# Altium schematic symbol library Cole_.SchLib: 330 symbols (part 8 of 10)
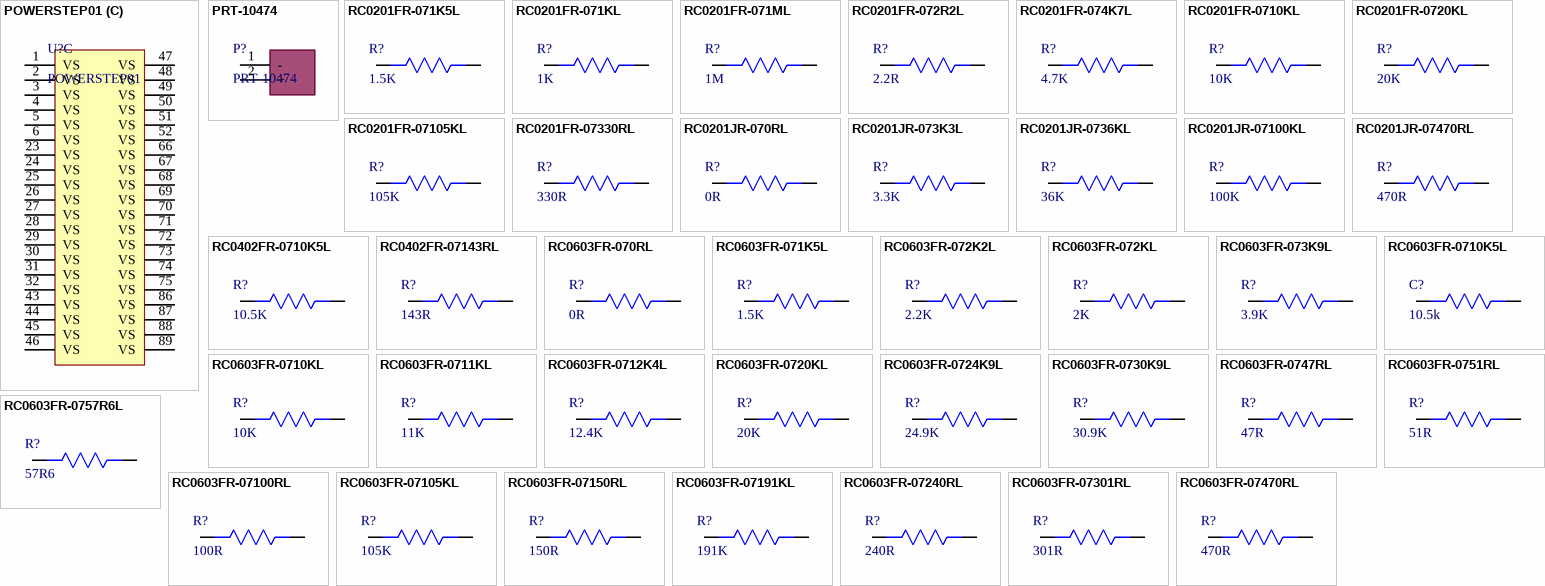
[diagram p15: symbols POWERSTEP01 to RC0603FR-07470RL]

## RC0603FR-07105KL
designator R?, comment 105K
RES SMD 105K OHM 1% 1/10W 0603; Manufacturer: Yageo; Manufacturer Part Number: RC0603FR-07105KL; Resistance: 105kR; Power Rating: 100mW; Voltage Rating: 75V; Temperature Coefficient: 100ppm/°C; Voltage Rating (DC): 50V; Supplier 1: Digi-Key; RoHS: Yes; Category: Chip SMD Resistors; Stock 1: 76313; Pricing 1: 1=0.10000, 10=0.02400, 100=0.00970, 1000=0.00436, 2500=0.00378 (USD); Mount: Surface Mount; Case/Package: 0603; Case Code (Metric): 1608; Case Code (Imperial): 0603; Weight: 7.1E-05oz; Size Code: 0603; Min Operating Temperature: -55°C; Max Operating Temperature: 155°C; Tolerance: 1%; Packaging: Tape and Reel; Package Quantity: 1; Resistor Type: Thick Film; Number of Terminations: 2; Termination: SMD/SMT; Max Power Dissipation: 100mW; Features: Moisture Resistant; Series: RC; Construction: Rectangular; Technology: THICK FILM; Length: 1.6mm; Width: 0.031inch; Height: 0.45mm; Depth: 0.8mm; Military Standard: Not; Lead Free: Lead Free; RoHS Compliant: Yes; ComponentLink1URL: https://datasheet.ciiva.com/11819/0900766b80f96399-11819228.pdf?src-supplier=RSComponents; ComponentLink1Description: https://datasheet.ciiva.com/11819/0900766b80f96399-11819228.pdf?src-supplier=RSComponents; ComponentLink2URL: https://datasheet.ciiva.com/2455/pyu-r-int-thick-7-2455239.pdf?src-supplier=Digi-Key; ComponentLink2Description: https://datasheet.ciiva.com/2455/pyu-r-int-thick-7-2455239.pdf?src-supplier=Digi-Key; ComponentLink3URL: https://datasheet.ciiva.com/2455/pyu-r-int-thick-7-2455240.pdf?src-supplier=Digi-Key; ComponentLink3Description: https://datasheet.ciiva.com/2455/pyu-r-int-thick-7-2455240.pdf?src-supplier=Digi-Key; ComponentLink4URL: https://datasheet.ciiva.com/2455/pyu-r-int-thick-7-2455241.pdf?src-supplier=Digi-Key; ComponentLink4Description: https://datasheet.ciiva.com/2455/pyu-r-int-thick-7-2455241.pdf?src-supplier=Digi-Key; Supplier Part Number 1: 311-105KHRCT-ND
footprint Res0603
pins: 1, 2

## RC0603FR-07150RL
designator R?, comment 150R
RES SMD 150OHM 1/10W 0603; Manufacturer: Yageo; Manufacturer Part Number: RC0603FR-07150RL; Tolerance: 1%; Power Rating: 100mW; Voltage Rating (DC): 50V; Temperature Coefficient: 100ppm/°C; Supplier 1: Digi-Key; RoHS: Yes; Category: Chip SMD Resistors; Stock 1: 263721; Pricing 1: 1=0.10000, 10=0.02400, 100=0.00970, 1000=0.00436, 2500=0.00378 (USD); Case/Package: 0603; Number of Pins: 2; Case Code (Imperial): 0603; Case Code (Metric): 1608; Size Code: 0603; Min Operating Temperature: -55°C; Max Operating Temperature: 155°C; Resistance: 150R; Packaging: Tape and Reel; Voltage Rating: 50V; Package Quantity: 5000; Termination: SMD/SMT; Resistor Type: Thick Film; Features: Moisture Resistant; Series: RC; Max Power Dissipation: 100mW; Number of Terminations: 2; Resistance Tolerance: 1%; Construction: Rectangular; Length: 1.6mm; Width: 0.8mm; Height: 0.45mm; Depth: 0.8mm; REACH SVHC: No SVHC; Lead Free: Lead Free; Military Standard: Not; RoHS Compliant: Yes; ComponentLink1URL: https://datasheet.ciiva.com/46412/443971-46412844.pdf?src-supplier=Element14; ComponentLink1Description: https://datasheet.ciiva.com/46412/443971-46412844.pdf?src-supplier=Element14; ComponentLink2URL: https://datasheet.ciiva.com/46440/1868787-46440893.pdf?src-supplier=Element14; ComponentLink2Description: https://datasheet.ciiva.com/46440/1868787-46440893.pdf?src-supplier=Element14; ComponentLink3URL: https://datasheet.ciiva.com/12555/rc0603-272842-12555301.pdf?src-supplier=Mouser; ComponentLink3Description: https://datasheet.ciiva.com/12555/rc0603-272842-12555301.pdf?src-supplier=Mouser; Supplier Part Number 1: 311-150HRCT-ND
footprint Res0603
pins: 1, 2

## RC0603FR-07191KL
designator R?, comment 191K
RES 191K OHM 1% 1/10W 0603; Manufacturer: Yageo; Manufacturer Part Number: RC0603FR-07191KL; Resistance: 191kR; Temperature Coefficient: 100ppm/°C; Power Rating: 100mW; Voltage Rating: 50V; Supplier 1: Future Electronics; RoHS: Yes; Category: Chip SMD Resistors; Stock 1: 5000; Pricing 1: 5000=0.00140, 25000=0.00120, 125000=0.00110, 250000=0.00110, 750000=0.00110 (USD); Case/Package: 0603; Contact Plating: Tin,Matte; Case Code (Metric): 1608; Case Code (Imperial): 0603; Size Code: 0603; Min Operating Temperature: -55°C; Max Operating Temperature: 155°C; Tolerance: 1%; Resistor Type: Thick Film; Package Quantity: 1; Packaging: Tape and Reel; Number of Terminations: 2; Termination: SMD/SMT; Max Power Dissipation: 100mW; Voltage Rating (DC): 50V; Features: Moisture Resistant; Series: RC; Construction: Rectangular; Length: 0.063inch; Width: 0.031inch; Height: 0.022inch; Depth: 0.8mm; Military Standard: Not; Lead Free: Lead Free; RoHS Compliant: Yes; ComponentLink1URL: https://datasheet.ciiva.com/2454/pyu-r-int-thick-7-2454421.pdf?src-supplier=Digi-Key; ComponentLink1Description: https://datasheet.ciiva.com/2454/pyu-r-int-thick-7-2454421.pdf?src-supplier=Digi-Key; ComponentLink2URL: https://datasheet.ciiva.com/2454/pyu-r-int-thick-7-2454422.pdf?src-supplier=Digi-Key; ComponentLink2Description: https://datasheet.ciiva.com/2454/pyu-r-int-thick-7-2454422.pdf?src-supplier=Digi-Key; ComponentLink3URL: https://datasheet.ciiva.com/2454/pyu-r-int-thick-7-2454420.pdf?src-supplier=Digi-Key; ComponentLink3Description: https://datasheet.ciiva.com/2454/pyu-r-int-thick-7-2454420.pdf?src-supplier=Digi-Key; Supplier Part Number 1: 9179672
footprint Res0603
pins: 1, 2

## RC0603FR-07240RL
designator R?, comment 240R
Res Thick Film 0603 240 Ohm 1% 1/10W +/-100ppm/ßC Molded SMD Paper T/R; Manufacturer: Yageo; Manufacturer Part Number: RC0603FR-07240RL; Temperature Coefficient: 100ppm/°C; Voltage Rating (DC): 50V; Power Rating: 100mW; Working Voltage: 75V; Supplier 1: Digi-Key; RoHS: Yes; Category: Chip SMD Resistors; Stock 1: 1253362; Pricing 1: 1=0.10000, 10=0.02400, 100=0.00970, 1000=0.00436, 2500=0.00378 (USD); Case/Package: 0603; Case Code (Metric): 1608; Case Code (Imperial): 0603; Min Operating Temperature: -55°C; Max Operating Temperature: 155°C; Resistance: 240R; Tolerance: 1%; Resistor Type: Thick Film; Packaging: Tape and Reel; Package Quantity: 1; Voltage Rating: 50V; Number of Terminations: 2; Termination: SMD/SMT; Max Power Dissipation: 100mW; Features: Moisture Resistant; Series: RC; Construction: Rectangular; Length: 1.6mm; Width: 0.031inch; Height: 0.022inch; Depth: 0.8mm; Lead Free: Lead Free; Military Standard: Not; RoHS Compliant: Yes; ComponentLink1URL: https://datasheet.ciiva.com/2508/pyu-r-int-thick-7-2508497.pdf?src-supplier=Digi-Key; ComponentLink1Description: https://datasheet.ciiva.com/2508/pyu-r-int-thick-7-2508497.pdf?src-supplier=Digi-Key; ComponentLink2URL: https://datasheet.ciiva.com/2508/pyu-r-int-thick-7-2508498.pdf?src-supplier=Digi-Key; ComponentLink2Description: https://datasheet.ciiva.com/2508/pyu-r-int-thick-7-2508498.pdf?src-supplier=Digi-Key; ComponentLink3URL: https://datasheet.ciiva.com/2508/pyu-r-int-thick-7-2508499.pdf?src-supplier=Digi-Key; ComponentLink3Description: https://datasheet.ciiva.com/2508/pyu-r-int-thick-7-2508499.pdf?src-supplier=Digi-Key; Supplier Part Number 1: 311-240HRCT-ND
footprint Res0603
pins: 1, 2

## RC0603FR-07301RL
designator R?, comment 301R
RES SMD 301 OHM 1% 1/10W 0603; Manufacturer: Yageo; Manufacturer Part Number: RC0603FR-07301RL; Temperature Coefficient: 100ppm/°C; Voltage Rating (DC): 50V; Power Rating: 100mW; Supplier 1: Digi-Key; Stock 1: 1010008; Pricing 1: 1=0.1, 10=0.024, 100=0.0097, 1000=0.00437, 2500=0.00379 (USD); Case/Package: 0603; Case Code (Metric): 1608; Case Code (Imperial): 0603; Min Operating Temperature: -55°C; Max Operating Temperature: 155°C; Resistance: 301R; Tolerance: 1%; Composition: Thick Film; Packaging: Tape and Reel; Package Quantity: 1; Voltage Rating: 50V; Number of Terminations: 2; Termination: SMD/SMT; Military Standard: Not; Max Power Dissipation: 100mW; Features: Moisture Resistant; Length: 1.6mm; Height: 0.022inch; Width: 0.031inch; Depth: 0.8mm; Lead Free: Lead Free; ComponentLink1URL: http://www.yageo.com/documents/recent/PYu-RC_Group_51_RoHS_L_9.pdf; ComponentLink1Description: http://www.yageo.com/documents/recent/PYu-RC_Group_51_RoHS_L_9.pdf; ComponentLink2URL: http://www.yageo.com/documents/recent/PYu-RC_Group_51_RoHS_L_10.pdf; ComponentLink2Description: http://www.yageo.com/documents/recent/PYu-RC_Group_51_RoHS_L_10.pdf; Supplier Part Number 1: 311-301HRCT-ND
footprint Res0603
pins: 1, 2

## RC0603FR-07470RL
designator R?, comment 470R
RES SMD 470 OHM 50 V, 0603 100 mW,  1%, RC Series; Manufacturer: Yageo; Manufacturer Part Number: RC0603FR-07470RL; Power Rating: 100mW; Voltage Rating: 50V; Temperature Coefficient: 100ppm/°C; Working Voltage: 75V; Supplier 1: Digi-Key; RoHS: Yes; Category: Chip SMD Resistors; Stock 1: 154083; Pricing 1: 1=0.10000, 10=0.02400, 100=0.00970, 1000=0.00436, 2500=0.00378 (USD); Case/Package: 0603; Case Code (Metric): 1608; Case Code (Imperial): 0603; Min Operating Temperature: -55°C; Max Operating Temperature: 155°C; Tolerance: 1%; Resistance: 470R; Packaging: Tape and Reel; Package Quantity: 1; Resistor Type: Thick Film; Number of Terminations: 2; Termination: SMD/SMT; Max Power Dissipation: 100mW; Features: Moisture Resistant; Series: RC; Technology: THICK FILM; Resistance Tolerance: 1%; Construction: Rectangular; Length: 1.6mm; Width: 0.031inch; Height: 0.022inch; Depth: 0.8mm; RoHS Compliant: Yes; REACH SVHC: No SVHC; Military Standard: Not; Lead Free: Lead Free; ComponentLink1URL: https://datasheet.ciiva.com/11808/0900766b80f96399-11808177.pdf?src-supplier=RSComponents; ComponentLink1Description: https://datasheet.ciiva.com/11808/0900766b80f96399-11808177.pdf?src-supplier=RSComponents; ComponentLink2URL: https://datasheet.ciiva.com/7746/1738695-7746359.pdf?src-supplier=Element14; ComponentLink2Description: https://datasheet.ciiva.com/7746/1738695-7746359.pdf?src-supplier=Element14; ComponentLink3URL: https://datasheet.ciiva.com/7746/1738695-7746360.pdf?src-supplier=Element14; ComponentLink3Description: https://datasheet.ciiva.com/7746/1738695-7746360.pdf?src-supplier=Element14; ComponentLink4URL: https://datasheet.ciiva.com/7660/1868787-7660793.pdf?src-supplier=Element14; ComponentLink4Description: https://datasheet.ciiva.com/7660/1868787-7660793.pdf?src-supplier=Element14; ComponentLink5URL: https://datasheet.ciiva.com/46440/1868787-46440907.pdf?src-supplier=Element14; ComponentLink5Description: https://datasheet.ciiva.com/46440/1868787-46440907.pdf?src-supplier=Element14; ComponentLink6URL: https://datasheet.ciiva.com/2454/pyu-r-int-thick-7-2454012.pdf?src-supplier=Digi-Key; ComponentLink6Description: https://datasheet.ciiva.com/2454/pyu-r-int-thick-7-2454012.pdf?src-supplier=Digi-Key; ComponentLink7URL: https://datasheet.ciiva.com/2454/pyu-r-int-thick-7-2454013.pdf?src-supplier=Digi-Key; ComponentLink7Description: https://datasheet.ciiva.com/2454/pyu-r-int-thick-7-2454013.pdf?src-supplier=Digi-Key; ComponentLink8URL: https://datasheet.ciiva.com/2454/pyu-r-int-thick-7-2454014.pdf?src-supplier=Digi-Key; ComponentLink8Description: https://datasheet.ciiva.com/2454/pyu-r-int-thick-7-2454014.pdf?src-supplier=Digi-Key; Supplier Part Number 1: 311-470HRCT-ND
footprint Res0603
pins: 1, 2

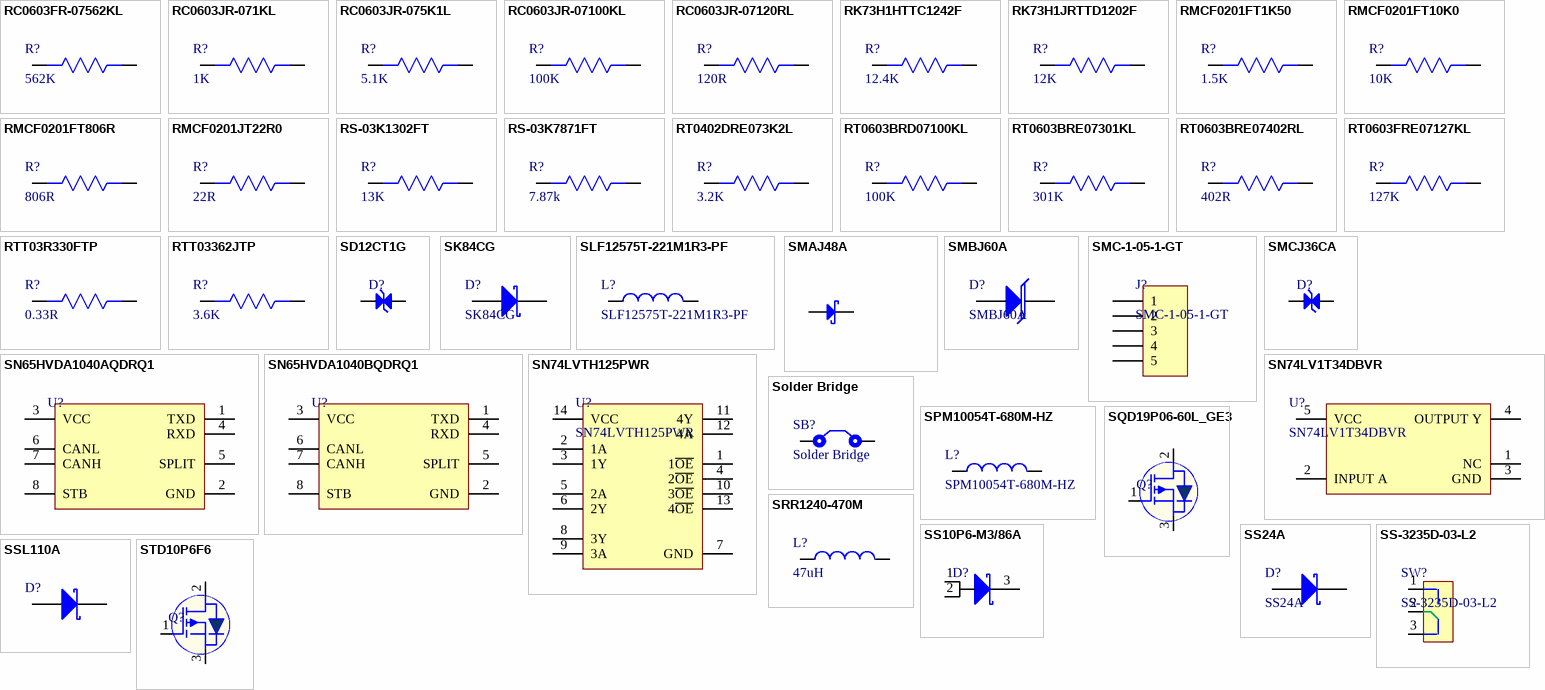
[diagram p6: symbols RC0603FR-07562KL to STD10P6F6]

## RC0603FR-07562KL
designator R?, comment 562K
RES 562K OHM 1% 1/10W 0603; Manufacturer: Yageo; Manufacturer Part Number: RC0603FR-07562KL; Resistance: 562kR; Power Rating: 100mW; Voltage Rating: 75V; Temperature Coefficient: 100ppm/°C; Voltage Rating (DC): 50V; Supplier 1: Digi-Key; RoHS: Yes; Category: Chip SMD Resistors; Stock 1: 39504; Pricing 1: 5000=0.00312 (USD); Mount: Surface Mount; Case/Package: 0603; Case Code (Imperial): 0603; Case Code (Metric): 1608; Weight: 7.1E-05oz; Min Operating Temperature: -55°C; Max Operating Temperature: 155°C; Tolerance: 1%; Packaging: Tape and Reel; Termination: SMD/SMT; Resistor Type: Thick Film; Working Voltage: 75V; Number of Terminations: 2; Features: Moisture Resistant; Series: RC; Max Power Dissipation: 100mW; Construction: Rectangular; Technology: THICK FILM; Length: 1.6mm; Width: 0.8mm; Height: 0.45mm; Depth: 0.8mm; Military Standard: Not; Lead Free: Lead Free; RoHS Compliant: Yes; ComponentLink1URL: https://datasheet.ciiva.com/11809/0900766b80f96399-11809291.pdf?src-supplier=RSComponents; ComponentLink1Description: https://datasheet.ciiva.com/11809/0900766b80f96399-11809291.pdf?src-supplier=RSComponents; Supplier Part Number 1: 311-562KHRTR-ND
footprint Res0603
pins: 1, 2

## RC0603JR-071KL
designator R?, comment 1K
RES SMD 1K 0.1W 0603  75 V, Thick Film; Manufacturer: Yageo; Manufacturer Part Number: RC0603JR-071KL; Resistance: 1kR; Tolerance: 5%; Temperature Coefficient: 100ppm/°C; Voltage Rating (DC): 50V; Power Rating: 100mW; Body Length: 1.6mm; Supplier 1: Digi-Key; RoHS: Yes; Category: Chip SMD Resistors; Stock 1: 1727570; Pricing 1: 1=0.10000, 10=0.02000, 100=0.00800, 1000=0.00360, 2500=0.00312 (USD); Case/Package: 0603; Number of Pins: 2; Contact Plating: Tin,Matte; Case Code (Imperial): 0603; Case Code (Metric): 1608; Size Code: 0603; Min Operating Temperature: -55°C; Max Operating Temperature: 155°C; Resistor Type: Thick Film; Packaging: Tape and Reel; Package Quantity: 5000; Voltage Rating: 50V; Termination: SMD/SMT; Series: RC; Resistance Tolerance: 5%; Construction: Rectangular; Length: 1.6mm; Width: 0.8mm; Height: 0.45mm; Depth: 0.8mm; Radiation Hardening: No; REACH SVHC: Unknown; Lead Free: Lead Free; Military Standard: Not; RoHS Compliant: Yes; Supplier Part Number 1: 311-1.0KGRCT-ND
footprint Res0603
pins: 1, 2

## RC0603JR-075K1L
designator R?, comment 5.1K
RES SMD 5.1K OHM 5% 1/10W 0603; Manufacturer: Yageo; Manufacturer Part Number: RC0603JR-075K1L; Resistance: 5.1kR; Power Rating: 100mW; Voltage Rating: 50V; Temperature Coefficient: 100ppm/°C; Supplier 1: Digi-Key; RoHS: Yes; Category: Chip SMD Resistors; Stock 1: 245818; Pricing 1: 1=0.10000, 10=0.02000, 100=0.00800, 1000=0.00360, 2500=0.00312 (USD); Case/Package: 0603; Number of Pins: 2; Case Code (Imperial): 0603; Case Code (Metric): 1608; Size Code: 0603; Min Operating Temperature: -55°C; Max Operating Temperature: 155°C; Tolerance: 5%; Packaging: Tape and Reel; Termination: SMD/SMT; Resistor Type: Thick Film; Voltage Rating (DC): 50V; Features: Moisture Resistant; Series: RC; Max Power Dissipation: 100mW; Number of Terminations: 2; Resistance Tolerance: 5%; Construction: Rectangular; Length: 1.6mm; Depth: 0.8mm; REACH SVHC: No SVHC; Military Standard: Not; Lead Free: Lead Free; RoHS Compliant: Yes; ComponentLink1URL: http://www.mouser.com/ds/2/447/RC0603-272842.pdf?src-supplier=Mouser; ComponentLink1Description: http://www.mouser.com/ds/2/447/RC0603-272842.pdf?src-supplier=Mouser; ComponentLink2URL: http://components.arrow.com/part/dataview/0323_00047491?src-supplier=Arrow+Europe; ComponentLink2Description: http://components.arrow.com/part/dataview/0323_00047491?src-supplier=Arrow+Europe; ComponentLink3URL: http://www.farnell.com/datasheets/2167052.pdf?src-supplier=Farnell; ComponentLink3Description: http://www.farnell.com/datasheets/2167052.pdf?src-supplier=Farnell; ComponentLink4URL: http://www.farnell.com/datasheets/2167052.pdf?src-supplier=Element14; ComponentLink4Description: http://www.farnell.com/datasheets/2167052.pdf?src-supplier=Element14; ComponentLink5URL: http://www.farnell.com/datasheets/2167052.pdf?src-supplier=Newark; ComponentLink5Description: http://www.farnell.com/datasheets/2167052.pdf?src-supplier=Newark; ComponentLink6URL: http://www.farnell.com/datasheets/1868787.pdf?src-supplier=Newark; ComponentLink6Description: http://www.farnell.com/datasheets/1868787.pdf?src-supplier=Newark; ComponentLink7URL: http://www.yageo.com/documents/recent/PYu-RC_Group_51_RoHS_L_10.pdf?src-supplier=Digi-Key; ComponentLink7Description: http://www.yageo.com/documents/recent/PYu-RC_Group_51_RoHS_L_10.pdf?src-supplier=Digi-Key; ComponentLink8URL: http://www.yageo.com/documents/recent/PYu-RC0603_51_RoHS_L_7.pdf?src-supplier=Future+Electronics; ComponentLink8Description: http://www.yageo.com/documents/recent/PYu-RC0603_51_RoHS_L_7.pdf?src-supplier=Future+Electronics; Supplier Part Number 1: 311-5.1KGRCT-ND
footprint Res0603
pins: 1, 2

## RC0603JR-07100KL
designator R?, comment 100K
Res Thick Film 0603 100K Ohm 5% 1/10W 100ppm/C Molded SMD SMD Paper T/R; Manufacturer: Yageo; Manufacturer Part Number: RC0603JR-07100KL; Resistance: 100kR; Temperature Coefficient: 100ppm/°C; Voltage Rating: 50V; Power Rating: 100mW; Supplier 1: Digi-Key; RoHS: Yes; Category: Chip SMD Resistors; Stock 1: 1210037; Pricing 1: 1=0.10000, 10=0.02000, 100=0.00800, 1000=0.00360, 2500=0.00312 (USD); Case/Package: 0603; Number of Pins: 2; Contact Plating: Tin,Matte; Case Code (Imperial): 0603; Case Code (Metric): 1608; Size Code: 0603; Min Operating Temperature: -55°C; Max Operating Temperature: 155°C; Tolerance: 5%; Resistor Type: Thick Film; Packaging: Tape and Reel; Voltage Rating (DC): 50V; Termination: SMD/SMT; Features: Moisture Resistant; Series: RC; Max Power Dissipation: 100mW; Number of Terminations: 2; Resistance Tolerance: 5%; Width: 0.8mm; Radiation Hardening: No; REACH SVHC: No SVHC; Lead Free: Lead Free; RoHS Compliant: Yes; ComponentLink1URL: https://datasheet.ciiva.com/7746/443971-7746424.pdf?src-supplier=Element14; ComponentLink1Description: https://datasheet.ciiva.com/7746/443971-7746424.pdf?src-supplier=Element14; ComponentLink2URL: https://datasheet.ciiva.com/7983/443971-7983686.pdf?src-supplier=Element14; ComponentLink2Description: https://datasheet.ciiva.com/7983/443971-7983686.pdf?src-supplier=Element14; ComponentLink3URL: https://datasheet.ciiva.com/7746/443971-7746423.pdf?src-supplier=Element14; ComponentLink3Description: https://datasheet.ciiva.com/7746/443971-7746423.pdf?src-supplier=Element14; ComponentLink4URL: https://datasheet.ciiva.com/8887/pyu-rc0603-51-rohs-l-4-8887903.pdf?src-supplier=Avnet; ComponentLink4Description: https://datasheet.ciiva.com/8887/pyu-rc0603-51-rohs-l-4-8887903.pdf?src-supplier=Avnet; Supplier Part Number 1: 311-100KGRCT-ND
footprint Res0603
pins: 1, 2

## RC0603JR-07120RL
designator R?, comment 120R
RES SMD 120OHM  0.1W 0603 5%(; Manufacturer: Yageo; Manufacturer Part Number: RC0603JR-07120RL; Temperature Coefficient: 100ppm/°C; Voltage Rating (DC): 50V; Power Rating: 100mW; Supplier 1: Digi-Key; RoHS: Yes; Category: Chip SMD Resistors; Stock 1: 669476; Pricing 1: 1=0.10000, 10=0.02000, 100=0.00800, 1000=0.00360, 2500=0.00312 (USD); Case/Package: 0603; Number of Pins: 2; Case Code (Metric): 1608; Case Code (Imperial): 0603; Size Code: 0603; Min Operating Temperature: -55°C; Max Operating Temperature: 155°C; Resistor Type: Thick Film; Resistance: 120R; Tolerance: 5%; Packaging: Tape and Reel; Voltage Rating: 50V; Package Quantity: 1; Number of Terminations: 2; Termination: SMD/SMT; Max Power Dissipation: 100mW; Features: Moisture Resistant; Series: RC; Resistance Tolerance: 5%; Construction: Rectangular; Length: 1.6mm; Width: 0.8mm; Height: 0.022inch; Depth: 0.8mm; REACH SVHC: No SVHC; Lead Free: Lead Free; Military Standard: Not; RoHS Compliant: Yes; ComponentLink1URL: https://datasheet.ciiva.com/15189/getdatasheetpartid-326532-15189850.pdf?src-supplier=Verical; ComponentLink1Description: https://datasheet.ciiva.com/15189/getdatasheetpartid-326532-15189850.pdf?src-supplier=Verical; ComponentLink2URL: https://datasheet.ciiva.com/2518/pyu-r-int-thick-7-2518850.pdf?src-supplier=Digi-Key; ComponentLink2Description: https://datasheet.ciiva.com/2518/pyu-r-int-thick-7-2518850.pdf?src-supplier=Digi-Key; ComponentLink3URL: https://datasheet.ciiva.com/2518/pyu-r-int-thick-7-2518851.pdf?src-supplier=Digi-Key; ComponentLink3Description: https://datasheet.ciiva.com/2518/pyu-r-int-thick-7-2518851.pdf?src-supplier=Digi-Key; ComponentLink4URL: https://datasheet.ciiva.com/2518/pyu-r-int-thick-7-2518852.pdf?src-supplier=Digi-Key; ComponentLink4Description: https://datasheet.ciiva.com/2518/pyu-r-int-thick-7-2518852.pdf?src-supplier=Digi-Key; ComponentLink5URL: https://datasheet.ciiva.com/12555/rc0603-272842-12555246.pdf?src-supplier=Mouser; ComponentLink5Description: https://datasheet.ciiva.com/12555/rc0603-272842-12555246.pdf?src-supplier=Mouser; ComponentLink6URL: https://datasheet.ciiva.com/46395/443971-46395070.pdf?src-supplier=Element14; ComponentLink6Description: https://datasheet.ciiva.com/46395/443971-46395070.pdf?src-supplier=Element14; Supplier Part Number 1: 311-120GRCT-ND
footprint Res0603
pins: 1, 2

## RK73H1HTTC1242F
designator R?, comment 12.4K
Thick Film Resistors - SMD 12.4K OHM 1%; Manufacturer: KOA Speer; Manufacturer Part Number: RK73H1HTTC1242F; Resistance: 12.4kR; Power Rating: 50mW; Voltage Rating: 25V; Temperature Coefficient: 200ppm/°C; Supplier 1: Digi-Key; RoHS: Yes; Category: Chip SMD Resistors; Stock 1: 7995; Pricing 1: 1=0.10000, 10=0.07500, 100=0.03050, 1000=0.01370, 2500=0.01189, 5000=0.00982 (USD); Case/Package: 0201; Case Code (Imperial): 0201; Case Code (Metric): 0603; Min Operating Temperature: -55°C; Max Operating Temperature: 125°C; Tolerance: 1%; Packaging: Tape and Reel; Package Quantity: 10000; Resistor Type: Thick Film; Termination: SMD/SMT; Voltage Rating (DC): 25V; Series: RK73H; Construction: Rectangular; Length: 0.6mm; Width: 0.3mm; Height: 0.23mm; Depth: 0.3mm; Military Standard: Not; Lead Free: Lead Free; RoHS Compliant: Yes; ComponentLink1URL: https://datasheet.ciiva.com/5554/rk73h-5715-5554809.pdf?src-supplier=Mouser; ComponentLink1Description: https://datasheet.ciiva.com/5554/rk73h-5715-5554809.pdf?src-supplier=Mouser; Supplier Part Number 1: 2019-RK73H1HTTC1242FCT-ND
footprint Res-0201
pins: 1, 2

## RK73H1JRTTD1202F
designator R?, comment 12K
Res, 12K, 1%, 0.1W, 0603 Rohs; Manufacturer: KOA Speer; Manufacturer Part Number: RK73H1JRTTD1202F; Resistance: 12kR; Power Rating: 100mW; Voltage Rating: 75V; Temperature Coefficient: 100ppm/°C; Voltage Rating (DC): 50V; Supplier 1: Digi-Key; RoHS: Yes; Category: Chip SMD Resistors; Stock 1: 65745; Pricing 1: 1=0.12000, 10=0.10900, 100=0.04200, 1000=0.01847, 2500=0.01595 (USD); Case/Package: 0603; Case Code (Imperial): 0603; Case Code (Metric): 1608; Weight: 7.1E-05oz; Min Operating Temperature: -55°C; Max Operating Temperature: 155°C; Tolerance: 1%; Packaging: Tape and Reel; Package Quantity: 5000; Termination: SMD/SMT; Length: 1.6mm; Width: 0.8mm; Height: 0.45mm; RoHS Compliant: Yes; ComponentLink1URL: http://www.mouser.com/ds/2/219/RK73H-5715.pdf?src-supplier=Mouser; ComponentLink1Description: http://www.mouser.com/ds/2/219/RK73H-5715.pdf?src-supplier=Mouser; Supplier Part Number 1: 2019-RK73H1JRTTD1202FCT-ND
footprint Res0603
pins: 1, 2

## RMCF0201FT1K50
designator R?, comment 1.5K
RES SMD 1.5K OHM 1% 1/20W 0201; Manufacturer: Stackpole Electronics; Manufacturer Part Number: RMCF0201FT1K50; Resistance: 1.5kR; Max Power Dissipation: 50mW; Temperature Coefficient: 200ppm/°C; Supplier 1: Digi-Key; RoHS: Yes; Category: Chip SMD Resistors; Stock 1: 151457; Pricing 1: 1=0.10000, 10=0.02700, 100=0.01090, 1000=0.00488, 2500=0.00423, 5000=0.00350 (USD); Mount: Surface Mount; Case/Package: 0201; Case Code (Metric): 0603; Case Code (Imperial): 0201; Contact Plating: Tin,Matte; Min Operating Temperature: -55°C; Max Operating Temperature: 125°C; Packaging: Tape and Reel; Tolerance: 1%; Resistor Type: Thick Film; Number of Terminations: 2; Series: RMCF; Length: 0.024inch; Width: 0.012inch; Height: 0.009inch; Radiation Hardening: No; RoHS Compliant: Yes; ComponentLink1URL: https://www.seielect.com/Catalog/SEI-RMCF_RMCP.pdf?src-supplier=Digi-Key; ComponentLink1Description: https://www.seielect.com/Catalog/SEI-RMCF_RMCP.pdf?src-supplier=Digi-Key; ComponentLink2URL: https://www.seielect.com/catalog/SEI-Packaging.pdf?src-supplier=Digi-Key; ComponentLink2Description: https://www.seielect.com/catalog/SEI-Packaging.pdf?src-supplier=Digi-Key; ComponentLink3URL: https://www.seielect.com/catalog/SEI-RMCF_RMCP.pdf?src-supplier=Avnet; ComponentLink3Description: https://www.seielect.com/catalog/SEI-RMCF_RMCP.pdf?src-supplier=Avnet; Supplier Part Number 1: RMCF0201FT1K50CT-ND
footprint Res-0201
pins: 1, 2

## RMCF0201FT10K0
designator R?, comment 10K
Res Thin Film 0402 3.2K Ohm 0.5% 1/16W ±50ppm/°C Molded SMD Paper T/R; Manufacturer: SEI; Manufacturer Part Number: RMCF0201FT10K0; Item Type: Resistor; Package: 0201; LCSC Part Number: C2479090; ComponentLink1Description: LCSC; ComponentLink1URL: https://www.lcsc.com/product-detail/Chip-Resistor-Surface-Mount_SEI-Stackpole-Elec-RMCF0201FT10K0_C2479090.html
footprint Res-0201
pins: 1, 2

## RMCF0201FT806R
designator R?, comment 806R
RES 806 OHM 1% 1/20W 0201; Manufacturer: Stackpole Electronics; Manufacturer Part Number: RMCF0201FT806R; Max Power Dissipation: 50mW; Temperature Coefficient: 200ppm/°C; Supplier 1: Digi-Key; RoHS: Yes; Category: Chip SMD Resistors; Stock 1: 9465; Pricing 1: 1=0.10000, 10=0.02700, 100=0.01090, 1000=0.00488, 2500=0.00423, 5000=0.00350 (USD); Mount: Surface Mount; Case/Package: 0201; Case Code (Metric): 0603; Case Code (Imperial): 0201; Contact Plating: Tin,Matte; Min Operating Temperature: -55°C; Max Operating Temperature: 125°C; Packaging: Tape and Reel; Resistance: 806R; Tolerance: 1%; Resistor Type: Thick Film; Number of Terminations: 2; Package Quantity: 10000; Series: RMCF; Length: 0.024inch; Width: 0.012inch; Height: 0.009inch; Radiation Hardening: No; RoHS Compliant: Yes; ComponentLink1URL: https://www.seielect.com/catalog/SEI-RMCF_RMCP.pdf?src-supplier=Avnet; ComponentLink1Description: https://www.seielect.com/catalog/SEI-RMCF_RMCP.pdf?src-supplier=Avnet; ComponentLink2URL: https://www.seielect.com/catalog/SEI-Packaging.pdf?src-supplier=Digi-Key; ComponentLink2Description: https://www.seielect.com/catalog/SEI-Packaging.pdf?src-supplier=Digi-Key; ComponentLink3URL: https://www.seielect.com/Catalog/SEI-RMCF_RMCP.pdf?src-supplier=Digi-Key; ComponentLink3Description: https://www.seielect.com/Catalog/SEI-RMCF_RMCP.pdf?src-supplier=Digi-Key; ComponentLink4URL: http://www.seielect.com/Catalog/SEI-RMCF_RMCP.pdf?src-supplier=Digi-Key; ComponentLink4Description: http://www.seielect.com/Catalog/SEI-RMCF_RMCP.pdf?src-supplier=Digi-Key; Supplier Part Number 1: RMCF0201FT806RCT-ND
footprint Res-0201
pins: 1, 2

## RMCF0201JT22R0
designator R?, comment 22R
RES SMD 22 OHM 5% 1/20W 0201; Manufacturer: Stackpole Electronics; Manufacturer Part Number: RMCF0201JT22R0; Max Power Dissipation: 50mW; Temperature Coefficient: 200ppm/°C; Supplier 1: Digi-Key; RoHS: Yes; Category: Chip SMD Resistors; Stock 1: 61464; Pricing 1: 1=0.10000, 10=0.02000, 100=0.00810, 1000=0.00366, 2500=0.00318, 5000=0.00262 (USD); Mount: Surface Mount; Case/Package: 0201; Case Code (Metric): 0603; Case Code (Imperial): 0201; Contact Plating: Tin,Matte; Min Operating Temperature: -55°C; Max Operating Temperature: 125°C; Packaging: Tape and Reel; Resistance: 22R; Tolerance: 5%; Package Quantity: 1; Resistor Type: Thick Film; Number of Terminations: 2; Series: RMCF; Length: 0.024inch; Width: 0.012inch; Height: 0.009inch; Radiation Hardening: No; RoHS Compliant: Yes; ComponentLink1URL: https://www.seielect.com/Catalog/SEI-RMCF_RMCP.pdf?src-supplier=Digi-Key; ComponentLink1Description: https://www.seielect.com/Catalog/SEI-RMCF_RMCP.pdf?src-supplier=Digi-Key; ComponentLink2URL: https://www.seielect.com/catalog/SEI-Packaging.pdf?src-supplier=Digi-Key; ComponentLink2Description: https://www.seielect.com/catalog/SEI-Packaging.pdf?src-supplier=Digi-Key; Supplier Part Number 1: RMCF0201JT22R0CT-ND
footprint Res-0201
pins: 1, 2

## RS-03K1302FT
designator R?, comment 13K
±1% 100mW 50V ±100ppm/℃ -55℃~+155℃ 13kΩ 0603 Chip Resistor - Surface Mount ROHS; Manufacturer: FH; Manufacturer Part No: RS-03K1302FT; Package: 0603; Value: 13K; ComponentLink1Description: LCSC; ComponentLink1URL: https://lcsc.com/product-detail/Chip-Resistor-Surface-Mount_FH-Guangdong-Fenghua-Advanced-Tech-RS-03K1302FT_C286570.html
footprint Res0603
pins: 1, 2

## RS-03K7871FT
designator R?, comment 7.87k
100mW 50V ±1% ±100ppm/℃ -55℃~+155℃ 7.87kΩ 0603 Chip Resistor - Surface Mount ROHS; Manufacturer: FH; Manufacturer Part Number: RS-03K7871FT; Footprint: 0603; ComponentLink1Description: LCSC; ComponentLink1URL: https://lcsc.com/product-detail/Chip-span-style-background-color-ff0-Resistor-span-Surface-Mount_FH-Guangdong-Fenghua-Advanced-Tech-RS-03K7871FT_C322001.html
footprint Res0603
pins: 1, 2

## RT0402DRE073K2L
designator R?, comment 3.2K
RES SMD 3.2K OHM 0.5% 1/16W 0402; Manufacturer: Yageo; Manufacturer Part Number: RT0402DRE073K2L; Value: 3.2kR; Max Power Dissipation: 63mW; Temperature Coefficient: 50ppm/°C; Item Type: Resistor; Supplier: Digi-Key; Supplier Part Number: 311-2283-1-ND; RoHS: Yes; Category: Chip SMD Resistors; Stock: 32960; Pricing: 1=0.17, 10=0.138, 50=0.0768, 100=0.054, 500=0.03442, 1000=0.02383, 5000=0.01986 (USD); Case/Package: 0402; Case Code (Metric): 1005; Case Code (Imperial): 0402; Min Operating Temperature: -55°C; Max Operating Temperature: 155°C; Packaging: Cut Tape; Number of Terminations: 2; Tolerance: 0.5%; Series: RT; RoHS Compliant: Yes; ComponentLink1URL: http://www.yageo.com/documents/recent/PYu-RT_1-to-0.01_RoHS_L_9.pdf?src-supplier=Digi-Key; ComponentLink1Description: http://www.yageo.com/documents/recent/PYu-RT_1-to-0.01_RoHS_L_9.pdf?src-supplier=Digi-Key; LCSC Part Number: C853935
footprint Res0402
pins: 1, 2

## RT0603BRD07100KL
designator R?, comment 100K
RES SMD 100K OHM 0.1% 1/10W 0603; Manufacturer: Yageo; Manufacturer Part Number: RT0603BRD07100KL; Resistance: 100kR; Temperature Coefficient: 25ppm/°C; Voltage Rating (DC): 75V; Power Rating: 100mW; Supplier 1: Digi-Key; Stock 1: 53395; Pricing 1: 1=0.39, 10=0.332, 100=0.1298, 1000=0.05435, 2500=0.04982 (USD); Mount: Surface Mount; Case/Package: 0603; Case Code (Imperial): 0603; Case Code (Metric): 1608; Min Operating Temperature: -55°C; Max Operating Temperature: 125°C; Tolerance: 0.1%; Composition: Thin Film; Packaging: Tape and Reel; Voltage Rating: 75V; Package Quantity: 5000; Termination: SMD/SMT; Number of Terminations: 2; Military Standard: Not; Max Power Dissipation: 100mW; Working Voltage: 75V; Features: Moisture Resistant; Length: 1.6mm; Height: 0.022inch; Width: 0.031inch; Depth: 0.8mm; Lead Free: Lead Free; ComponentLink1URL: http://documents.rs-components.com/techlib://itc_doclist_GB.htm?stockno=6174810&src-supplier=RSComponents; ComponentLink1Description: http://documents.rs-components.com/techlib://itc_doclist_GB.htm?stockno=6174810&src-supplier=RSComponents; Supplier Part Number 1: YAG1235CT-ND
footprint Res0603
pins: 1, 2

## RT0603BRE07301KL
designator R?, comment 301K
RES SMD 301K OHM 0.1% 1/10W 0603; Manufacturer: Yageo; Manufacturer Part Number: RT0603BRE07301KL; Resistance: 301kR; Max Power Dissipation: 100mW; Temperature Coefficient: 50ppm/°C; Voltage Rating (DC): 50V; Supplier 1: Digi-Key; RoHS: Yes; Category: Chip SMD Resistors; Stock 1: 95; Pricing 1: 1=0.40000, 10=0.28900, 100=0.11550, 1000=0.05691, 2500=0.05272 (USD); Case/Package: 0603; Min Operating Temperature: -55°C; Max Operating Temperature: 125°C; Package Quantity: 5000; Packaging: Tape and Reel; Tolerance: 0.1%; Resistor Type: Thin Film; Number of Terminations: 2; Series: RT; Length: 0.063inch; Width: 0.031inch; Height: 0.022inch; Lead Free: Lead Free; RoHS Compliant: Yes; ComponentLink1URL: https://datasheet.ciiva.com/2584/pyu-rt-1-to-0-05-rohs-l-5-2584420.pdf?src-supplier=Digi-Key; ComponentLink1Description: https://datasheet.ciiva.com/2584/pyu-rt-1-to-0-05-rohs-l-5-2584420.pdf?src-supplier=Digi-Key; Supplier Part Number 1: YAG4695CT-ND
footprint Res0603
pins: 1, 2

## RT0603BRE07402RL
designator R?, comment 402R
RES SMD 402 OHM 0.1% 1/10W 0603; Manufacturer: Yageo; Manufacturer Part Number: RT0603BRE07402RL; Power Rating: 100mW; Voltage Rating (DC): 50V; Temperature Coefficient: 50ppm/°C; Item Type: Resistor; Supplier: Digi-Key; Supplier Part Number: RT0603BRE07402RL-ND; RoHS: Yes; Category: Chip SMD Resistors; Pricing: 5000=0.04588 (USD); Case/Package: 0603; Min Operating Temperature: -55°C; Max Operating Temperature: 155°C; Value: 402R; Packaging: Tape and Reel; Tolerance: 0.1%; Series: RT; Max Power Dissipation: 100mW; Number of Terminations: 2; Length: 1.6mm; Width: 800um; Height: 450um; Lead Free: Lead Free; RoHS Compliant: Yes; ComponentLink1URL: http://www.yageo.com/documents/recent/PYu-RT_1-to-0.01_RoHS_L_9.pdf?src-supplier=Digi-Key; ComponentLink1Description: http://www.yageo.com/documents/recent/PYu-RT_1-to-0.01_RoHS_L_9.pdf?src-supplier=Digi-Key; LCSC Part Number: C849745
footprint Res0603
pins: 1, 2

## RT0603FRE07127KL
designator R?, comment 127K
RES SMD 127K OHM 1% 1/10W 0603; Manufacturer: Yageo; Manufacturer Part Number: RT0603FRE07127KL; Power Rating: 100mW; Resistance: 127kR; Voltage Rating: 75V; Temperature Coefficient: 50ppm/°C; Voltage Rating (DC): 50V; Supplier 1: Mouser; RoHS: Yes; Category: Chip SMD Resistors; Stock 1: 7346; Pricing 1: 1=0.19000, 10=0.05700, 50=0.05700, 100=0.02300, 1000=0.01100, 10000=0.00700 (USD); Case/Package: 0603; Case Code (Metric): 1608; Case Code (Imperial): 0603; Min Operating Temperature: -55°C; Max Operating Temperature: 125°C; Packaging: Tape and Reel; Tolerance: 1%; Package Quantity: 5000; Resistor Type: Thin Film; Termination: SMD/SMT; Number of Terminations: 2; Max Power Dissipation: 100mW; Series: RT; Length: 0.063inch; Width: 0.031inch; Height: 0.022inch; Lead Free: Lead Free; RoHS Compliant: Yes; ComponentLink1URL: https://datasheet.ciiva.com/2559/pyu-rt-1-to-0-05-rohs-l-5-2559509.pdf?src-supplier=Digi-Key; ComponentLink1Description: https://datasheet.ciiva.com/2559/pyu-rt-1-to-0-05-rohs-l-5-2559509.pdf?src-supplier=Digi-Key; Supplier Part Number 1: 603-RT0603FRE07127KL
footprint Res0603
pins: 1, 2

## RTT03R330FTP
designator R?, comment 0.33R
±1% 1/10W Thick Film Resistors 75V ±600ppm/℃ -55℃~+155℃ 0.33Ω 0603 Chip Resistor - Surface Mount ROHS; Manufacturer: RALEC; Manufacturer Part No: RTT03R330FTP; Value: 0.33Ω; Package: 0603
footprint Res0603
pins: 1, 2

## RTT03362JTP
designator R?, comment 3.6K
±5% 1/10W Thick Film Resistors 75V ±100ppm/℃ -55℃~+155℃ 3.6kΩ 0603 Chip Resistor - Surface Mount ROHS; Manufacturer: RALEC; Manufacturer Part No: RTT03362JTP; Value: 3.6kΩ; Package: 0603
footprint Res0603
pins: 1, 2

## SD12CT1G
designator D?
TVS DIODE 12VWM 19VC SOD323; Manufacturer: ON Semiconductor; Manufacturer Part Number: SD12CT1G; Voltage Rating (DC): 12V; Supplier: Digikey; Supplier Part Number: SD12CT1GOSCT-ND; RoHS: Yes; Item Type: Tvs Diode; Stock: 264306; Pricing: 1=0.4, 10=0.314, 100=0.1882, 500=0.17422, 1000=0.11847 (USD); Width: 1.25mm; Lead Free: 5697LeadFree; ComponentLink1URL: https://datasheet.ciiva.com/11193/sd12ct1-d-11193237.pdf?src-supplier=Avnet; ComponentLink1Description: https://datasheet.ciiva.com/11193/sd12ct1-d-11193237.pdf?src-supplier=Avnet; ComponentLink2URL: https://datasheet.ciiva.com/4508/sd12ct1-d-4508170.pdf?src-supplier=Mouser; ComponentLink2Description: https://datasheet.ciiva.com/4508/sd12ct1-d-4508170.pdf?src-supplier=Mouser; ComponentLink3URL: https://datasheet.ciiva.com/339/sd12ct1-d-339841.pdf?src-supplier=Digikey; ComponentLink3Description: https://datasheet.ciiva.com/339/sd12ct1-d-339841.pdf?src-supplier=Digikey; ComponentLink4URL: https://datasheet.ciiva.com/339/sd12ct1-d-339842.pdf?src-supplier=Digikey; ComponentLink4Description: https://datasheet.ciiva.com/339/sd12ct1-d-339842.pdf?src-supplier=Digikey; ComponentLink5URL: https://datasheet.ciiva.com/339/sd12ct1-d-339843.pdf?src-supplier=Digikey; ComponentLink5Description: https://datasheet.ciiva.com/339/sd12ct1-d-339843.pdf?src-supplier=Digikey; ComponentLink6URL: https://datasheet.ciiva.com/7973/sd12ct1-d-7973942.pdf?src-supplier=Element14; ComponentLink6Description: https://datasheet.ciiva.com/7973/sd12ct1-d-7973942.pdf?src-supplier=Element14; LCSC Part Number: C328100
footprint SOD-323 (Bi-directional)
pins: 1 A, 2 A

## SK84CG
designator D?
40V 550mV@8A 8A SMC Schottky Barrier Diodes (SBD) ROHS; Manufacturer: Shikues; Manufacturer Part No: SK84CG; Package: SMC; ComponentLink1Description: LCSC; ComponentLink1URL: https://lcsc.com/product-detail/Schottky-Barrier-Diodes-SBD_Shikues-SK84CG_C475724.html
footprint SMC
pins: 1 K, 2 A

## SLF12575T-221M1R3-PF
designator L?
Inductor Power Shielded Wirewound 220uH 20% 1KHz Ferrite 1.3A 310mOhm DCR Blister T/R; Manufacturer: TDK; DC Resistance (DCR): 310mR; Supplier 1: Digi-Key; Manufacturer Part Number: SLF12575T-221M1R3-PF; RoHS: Yes; Category: Fixed Inductors; Stock 1: 1079; Pricing 1: 1=1.97000, 10=1.81500, 25=1.66360, 50=1.42180, 100=1.27050, 250=1.08900 (USD); Mount: Surface Mount; Case/Package: Nonstandard; Core Material: Ferrite; Min Operating Temperature: -20°C; Max Operating Temperature: 105°C; Package Quantity: 500; Packaging: Tape and Reel; Tolerance: 20%; Shielding: Shielded; Inductance: 220uH; Current Rating: 1.3A; Saturation Current: 1.3A; Max DC Current: 1.3A; Termination: SMD/SMT; Resistor Type: Wirewound; Test Frequency: 1kHz; DC Current: 1.3A; Series: SLF; Length: 12.5mm; Width: 12.5mm; Height: 0.295inch; Height - Seated (Max): 0.309inch; Depth: 12.8mm; Military Standard: Not; Lead Free: Lead Free; RoHS Compliant: Yes; ComponentLink1URL: https://datasheet.ciiva.com/11802/0900766b812b7d4f-11802208.pdf?src-supplier=RSComponents; ComponentLink1Description: https://datasheet.ciiva.com/11802/0900766b812b7d4f-11802208.pdf?src-supplier=RSComponents; Supplier Part Number 1: 445-174412-1-ND
footprint SLF12575T-221M1R3-PF
pins: 1, 2

## SMAJ48A
designator D?
TVS DIODE 48VWM 77.4VC DO214AC; Manufacturer: Littelfuse; Manufacturer Part Number: SMAJ48A; Polarity: Unidirectional; Breakdown Voltage: 53.3V; Peak Pulse Power: 400W; Reverse Standoff Voltage: 48V; Peak Pulse Current: 5.2A; Clamping Voltage: 77.4V; Number of Unidirectional Channels: 1; Power Line Protection: No; Test Current: 1mA; Diode Type: ZENER; Max Power Dissipation: 3.3W; Leakage Current: 1uA; Max Breakdown Voltage: 58.9V; Package: SMA(DO-214AC); LCSC Part Number: C223991; Item Type: TVS  Diode; ComponentLink1Description: LCSC; Supplier: Rs; Supplier Part Number: 1719659; RoHS: Yes; Category: TVS Diodes; Stock: 2975; Pricing: 25=0.231, 100=0.214, 500=0.209, 1000=0.204 (GBP); Mounting Technology: Surface Mount; Case/Package: DO-214AC; Pins: 2; Min Operating Temperature: -65°C; Max Operating Temperature: 150°C; Min Breakdown Voltage: 53.3V; Packaging: Tape and Reel; Package Quantity: 5000; Max Surge Current: 5.2A; Series: SMAJ; Operating Supply Voltage: 48V; Direction: Unidirectional; Termination: SMD/SMT; Number of Channels: 1; Reverse Breakdown Voltage: 53.3V; Number of Elements: 1; Voltage Rating (DC): 48V; Power Dissipation: 400W; Clamping Voltage-Max: 77.4V; Length: 5.28mm; Width: 2.79mm; Height: 2.29mm; RoHS Compliant: Yes; Reach SVHC Compliant: No; Lead Free: Lead Free; ComponentLink2URL: https://datasheet.ciiva.com/28649/607617-28649159.pdf?src-supplier=Element14; ComponentLink2Description: https://datasheet.ciiva.com/28649/607617-28649159.pdf?src-supplier=Element14; ComponentLink3URL: https://datasheet.ciiva.com/16391/littelfuse-tvs-diode-smaj-16391798.pdf?src-supplier=Future+Electronics; ComponentLink3Description: https://datasheet.ciiva.com/16391/littelfuse-tvs-diode-smaj-16391798.pdf?src-supplier=Future+Electronics; ComponentLink4URL: https://datasheet.ciiva.com/330/littelfuse-tvs-diode-smaj-datasheet-pdf-330802.pdf?src-supplier=Digi-Key; ComponentLink4Description: https://datasheet.ciiva.com/330/littelfuse-tvs-diode-smaj-datasheet-pdf-330802.pdf?src-supplier=Digi-Key; ComponentLink5URL: https://datasheet.ciiva.com/330/littelfuse-tvs-diode-smaj-datasheet-pdf-330803.pdf?src-supplier=Digi-Key; ComponentLink5Description: https://datasheet.ciiva.com/330/littelfuse-tvs-diode-smaj-datasheet-pdf-330803.pdf?src-supplier=Digi-Key; ComponentLink6URL: https://datasheet.ciiva.com/330/littelfuse-tvs-diode-smaj-datasheet-pdf-330804.pdf?src-supplier=Digi-Key; ComponentLink6Description: https://datasheet.ciiva.com/330/littelfuse-tvs-diode-smaj-datasheet-pdf-330804.pdf?src-supplier=Digi-Key
footprint SMA
pins: 1 K, 2 A

## SMBJ60A
designator D?
TVS DIODE 60V 96.8V DO214AA; Manufacturer: Littelfuse; Manufacturer Part Number: SMBJ6.0A; Peak Pulse Power: 600W; Polarity: Unidirectional; Peak Pulse Current: 6.2A; Test Current: 10mA; Breakdown Voltage: 66.7V; Number of Elements: 1; Leakage Current: 1uA; Min Breakdown Voltage: 6.67V; Max Reverse Leakage Current: 800uA; Element Configuration: Single; Max Breakdown Voltage: 7.37V; Power Line Protection: No; Voltage Rating (DC): 6V; Diode Type: ZENER; Clamping Voltage-Max: 10.3V; Supplier 1: Digi-Key; RoHS: Yes; Category: TVS Diodes; Stock 1: 1394; Pricing 1: 1=0.47000, 10=0.35300, 100=0.21960, 500=0.15028, 1000=0.11560 (USD); Mount: Surface Mount; Case/Package: DO-214AA; Number of Pins: 2; Min Operating Temperature: -65°C; Max Operating Temperature: 150°C; Clamping Voltage: 96.8V; Reverse Standoff Voltage: 60V; Packaging: Tape and Reel; Max Surge Current: 6.2A; Package Quantity: 3000; Reverse Breakdown Voltage: 66.7V; Operating Supply Voltage: 60V; Number of Channels: 1; Direction: Unidirectional; Termination: SMD/SMT; Max Power Dissipation: 600W; Power Dissipation: 600W; Number of Unidirectional Channels: 1; Resistor Type: Zener; Series: SMBJ; Length: 4.57mm; Width: 3.94mm; Height: 2.237mm; Radiation Hardening: No; RoHS Compliant: Yes; Lead Free: Lead Free; REACH SVHC: No SVHC; ComponentLink1URL: https://datasheet.ciiva.com/5771/littelfuse-tvs-diode-smbj-5771072.pdf?src-supplier=Farnell; ComponentLink1Description: https://datasheet.ciiva.com/5771/littelfuse-tvs-diode-smbj-5771072.pdf?src-supplier=Farnell; ComponentLink2URL: https://datasheet.ciiva.com/25624/0900766b810f4eeb-25624708.pdf?src-supplier=RSComponents; ComponentLink2Description: https://datasheet.ciiva.com/25624/0900766b810f4eeb-25624708.pdf?src-supplier=RSComponents; ComponentLink3URL: https://datasheet.ciiva.com/15143/getdatasheetpartid-121100-15143582.pdf?src-supplier=Verical; ComponentLink3Description: https://datasheet.ciiva.com/15143/getdatasheetpartid-121100-15143582.pdf?src-supplier=Verical; ComponentLink4URL: https://datasheet.ciiva.com/331/littelfuse-tvs-diode-smbj-datasheet-pdf-331140.pdf?src-supplier=Digi-Key; ComponentLink4Description: https://datasheet.ciiva.com/331/littelfuse-tvs-diode-smbj-datasheet-pdf-331140.pdf?src-supplier=Digi-Key; ComponentLink5URL: https://datasheet.ciiva.com/331/littelfuse-tvs-diode-smbj-datasheet-pdf-331142.pdf?src-supplier=Digi-Key; ComponentLink5Description: https://datasheet.ciiva.com/331/littelfuse-tvs-diode-smbj-datasheet-pdf-331142.pdf?src-supplier=Digi-Key; ComponentLink6URL: https://datasheet.ciiva.com/331/littelfuse-tvs-diode-smbj-datasheet-pdf-331302.pdf?src-supplier=Digi-Key; ComponentLink6Description: https://datasheet.ciiva.com/331/littelfuse-tvs-diode-smbj-datasheet-pdf-331302.pdf?src-supplier=Digi-Key; ComponentLink7URL: https://datasheet.ciiva.com/331/littelfuse-tvs-diode-smbj-datasheet-pdf-331303.pdf?src-supplier=Digi-Key; ComponentLink7Description: https://datasheet.ciiva.com/331/littelfuse-tvs-diode-smbj-datasheet-pdf-331303.pdf?src-supplier=Digi-Key; ComponentLink8URL: https://datasheet.ciiva.com/8062/13057-8062551.pdf?src-supplier=Element14; ComponentLink8Description: https://datasheet.ciiva.com/8062/13057-8062551.pdf?src-supplier=Element14; ComponentLink9URL: https://datasheet.ciiva.com/16389/littelfuse-tvs-diode-smbj-16389079.pdf?src-supplier=Future+Electronics; ComponentLink9Description: https://datasheet.ciiva.com/16389/littelfuse-tvs-diode-smbj-16389079.pdf?src-supplier=Future+Electronics; ComponentLink10URL: https://datasheet.ciiva.com/331/littelfuse-tvs-diode-smbj-datasheet-pdf-331304.pdf?src-supplier=Digi-Key; ComponentLink10Description: https://datasheet.ciiva.com/331/littelfuse-tvs-diode-smbj-datasheet-pdf-331304.pdf?src-supplier=Digi-Key; ComponentLink11URL: https://datasheet.ciiva.com/16395/littelfuse-tvs-diode-smbj-16395752.pdf?src-supplier=Future+Electronics; ComponentLink11Description: https://datasheet.ciiva.com/16395/littelfuse-tvs-diode-smbj-16395752.pdf?src-supplier=Future+Electronics; ComponentLink12URL: https://datasheet.ciiva.com/8062/littelfuse-tvs-diode-smbj-8062345.pdf?src-supplier=Element14; ComponentLink12Description: https://datasheet.ciiva.com/8062/littelfuse-tvs-diode-smbj-8062345.pdf?src-supplier=Element14; ComponentLink13URL: https://datasheet.ciiva.com/4508/littelfuse-tvs-diode-smbj-48653-4508090.pdf?src-supplier=Mouser; ComponentLink13Description: https://datasheet.ciiva.com/4508/littelfuse-tvs-diode-smbj-48653-4508090.pdf?src-supplier=Mouser; ComponentLink14URL: https://datasheet.ciiva.com/4510/littelfuse-tvs-diode-smbj-48653-4510171.pdf?src-supplier=Mouser; ComponentLink14Description: https://datasheet.ciiva.com/4510/littelfuse-tvs-diode-smbj-48653-4510171.pdf?src-supplier=Mouser; ComponentLink15URL: https://datasheet.ciiva.com/14162/smbj-eng-ds-14162044.pdf?src-supplier=Distrelec; ComponentLink15Description: https://datasheet.ciiva.com/14162/smbj-eng-ds-14162044.pdf?src-supplier=Distrelec; ComponentLink16URL: https://datasheet.ciiva.com/8062/littelfuse-tvs-diode-smbj-8062349.pdf?src-supplier=Element14; ComponentLink16Description: https://datasheet.ciiva.com/8062/littelfuse-tvs-diode-smbj-8062349.pdf?src-supplier=Element14; Supplier Part Number 1: SMBJ6.0ALFCT-ND
footprint SMBJ60A (TVS DIODE 60V 96.8V DO214AA)
pins: 1 K, 2 A

## SMC-1-05-1-GT
designator J?
MACHINE PIN SOCKET 5P 2.54MM PIT; Manufacturer: Adam Equipment; Supplier 1: Digi-Key; Manufacturer Part Number: SMC-1-05-1-GT; RoHS: No; Stock 1: 1697; Pricing 1: 1=0.41000, 10=0.38500, 25=0.33040, 50=0.28080, 100=0.26970, 250=0.24224, 500=0.23120, 1000=0.19268, 2500=0.17616 (USD); Supplier Part Number 1: 2057-SMC-1-05-1-GT-ND
footprint SMC-1-05-1-GT
pins: 1, 2, 3, 4, 5

## SMCJ36CA
designator D?
TVS DIODE 36VWM 58.1VC DO214AB; Manufacturer: Littelfuse; Manufacturer Part Number: SMCJ36CA; Item Type: TVS Diodes; Supplier: Future Electronics; Supplier Part Number: 1355007; RoHS: Yes; Stock: 147000; Pricing: 3000=0.23, 6000=0.225, 9000=0.225, 12000=0.22, 15000=0.215, 30000=0.134 (USD); ComponentLink1URL: https://datasheet.ciiva.com/16487/littelfuse-tvs-diode-smcj-16487800.pdf?src-supplier=Future+Electronics; ComponentLink1Description: https://datasheet.ciiva.com/16487/littelfuse-tvs-diode-smcj-16487800.pdf?src-supplier=Future+Electronics; ComponentLink2URL: https://datasheet.ciiva.com/341/littelfuse-tvs-diode-smcj-datasheet-pdf-341186.pdf?src-supplier=Digikey; ComponentLink2Description: https://datasheet.ciiva.com/341/littelfuse-tvs-diode-smcj-datasheet-pdf-341186.pdf?src-supplier=Digikey; ComponentLink3URL: https://datasheet.ciiva.com/341/littelfuse-tvs-diode-smcj-datasheet-pdf-341187.pdf?src-supplier=Digikey; ComponentLink3Description: https://datasheet.ciiva.com/341/littelfuse-tvs-diode-smcj-datasheet-pdf-341187.pdf?src-supplier=Digikey; ComponentLink4URL: https://datasheet.ciiva.com/341/littelfuse-tvs-diode-smcj-datasheet-pdf-341188.pdf?src-supplier=Digikey; ComponentLink4Description: https://datasheet.ciiva.com/341/littelfuse-tvs-diode-smcj-datasheet-pdf-341188.pdf?src-supplier=Digikey; ComponentLink5URL: https://datasheet.ciiva.com/4509/littelfuse-tvs-diode-smcj-62645-4509181.pdf?src-supplier=Mouser; ComponentLink5Description: https://datasheet.ciiva.com/4509/littelfuse-tvs-diode-smcj-62645-4509181.pdf?src-supplier=Mouser; ComponentLink6URL: https://datasheet.ciiva.com/46384/607636-46384506.pdf?src-supplier=Element14; ComponentLink6Description: https://datasheet.ciiva.com/46384/607636-46384506.pdf?src-supplier=Element14
footprint SMC Bi Directional
pins: 1 A, 2 A

## SN65HVDA1040AQDRQ1
designator U?
IC TRANSCEIVER HALF 1/1 8SOIC; Manufacturer: Texas Instruments; Manufacturer Part Number: SN65HVDA1040AQDRQ1; Number of Transmit Buffers: 1; Min Supply Voltage: 4.75V; Max Supply Voltage: 5.25V; Data Rate: 1Mbps; Operating Supply Voltage: 5V; Nominal Supply Current: 70mA; Supplier 1: Arrow Electronics; RoHS: Yes; Category: Interface ICs; Stock 1: 20; Pricing 1: 1=1.73580, 10=1.50150 (USD); Case/Package: D; Number of Pins: 8; Contact Plating: Gold; Min Operating Temperature: -40°C; Max Operating Temperature: 125°C; Number of Receive Buffers: 1; Packaging: Tape and Reel; Package Quantity: 2500; Number of Transceivers: 1; Max Supply Current: 70mA; Series: -; Supply Current: 70mA; Radiation Hardening: No; REACH SVHC: No SVHC; Lead Free: Lead Free; RoHS Compliant: Yes; ComponentLink1URL: https://datasheet.ciiva.com/28652/1787993-28652354.pdf?src-supplier=Element14; ComponentLink1Description: https://datasheet.ciiva.com/28652/1787993-28652354.pdf?src-supplier=Element14; ComponentLink2URL: https://datasheet.ciiva.com/41461/001187135-da-01-en-ic-transcv-sn65hvda1040aqdrq1-soic-8-tid-41461891.pdf?src-supplier=Conrad; ComponentLink2Description: https://datasheet.ciiva.com/41461/001187135-da-01-en-ic-transcv-sn65hvda1040aqdrq1-soic-8-tid-41461891.pdf?src-supplier=Conrad; ComponentLink3URL: https://datasheet.ciiva.com/1766/sn65hvda1040a-q1-1766439.pdf?src-supplier=Digi-Key; ComponentLink3Description: https://datasheet.ciiva.com/1766/sn65hvda1040a-q1-1766439.pdf?src-supplier=Digi-Key; ComponentLink4URL: https://datasheet.ciiva.com/1766/sn65hvda1040a-q1-1766438.pdf?src-supplier=Digi-Key; ComponentLink4Description: https://datasheet.ciiva.com/1766/sn65hvda1040a-q1-1766438.pdf?src-supplier=Digi-Key; ComponentLink5URL: https://datasheet.ciiva.com/1766/sn65hvda1040a-q1-1766440.pdf?src-supplier=Digi-Key; ComponentLink5Description: https://datasheet.ciiva.com/1766/sn65hvda1040a-q1-1766440.pdf?src-supplier=Digi-Key; ComponentLink6URL: https://datasheet.ciiva.com/15150/getdatasheetpartid-184324-15150727.pdf?src-supplier=Verical; ComponentLink6Description: https://datasheet.ciiva.com/15150/getdatasheetpartid-184324-15150727.pdf?src-supplier=Verical; Supplier Part Number 1: SN65HVDA1040AQDRQ1
footprint SOIC-8
pins: 1 TXD, 2 GND, 3 VCC, 4 RXD, 5 SPLIT, 6 CANL, 7 CANH, 8 STB